# Altium schematic symbol library CN-2P-F-R6.SchLib: 1 symbol
Pins are listed as number, name and electrical type; pins without a type are passive.

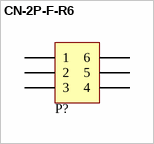
[diagram p0: symbol CN-2P-F-R6]

## CN-2P-F-R6
designator P?
pins: 1, 2, 3, 4, 5, 6